# Altium schematic symbol library B02B-PASK_LF__SN_.SchLib: 1 symbol
Pins are listed as number, name and electrical type; pins without a type are passive.

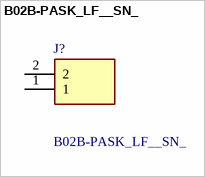
[diagram p0: symbol B02B-PASK_LF__SN_]

## B02B-PASK_LF__SN_
designator J?
CONN HEADER VERT 2POS 2MM; Manufacturer_Name: JST (JAPAN SOLDERLESS TERMINALS); Manufacturer_Part_Number: B02B-PASK(LF)(SN); Geometry.Height: 7.7mm; Mouser Part Number: 306-B02BPASKLFSN; Mouser Price/Stock: https://www.mouser.co.uk/ProductDetail/JST-Commercial/B02B-PASKLFSN?qs=QpmGXVUTftHnV4RF3PfMgg%3D%3D; Arrow Part Number: B02B-PASK(LF)(SN); Arrow Price/Stock: https://www.arrow.com/en/products/b02b-pask-lf-sn/jst-manufacturing?utm_currency=USD&region=europe; Datasheet Link: https://datasheet.datasheetarchive.com/originals/dk/DKDS41/DSANUWW0025340.pdf
footprint B02BPASKLFSN
pins: 1, 2